# Altium schematic symbol library ic-memory.SchLib: 9 symbols
Pins are listed as number, name and electrical type; pins without a type are passive.

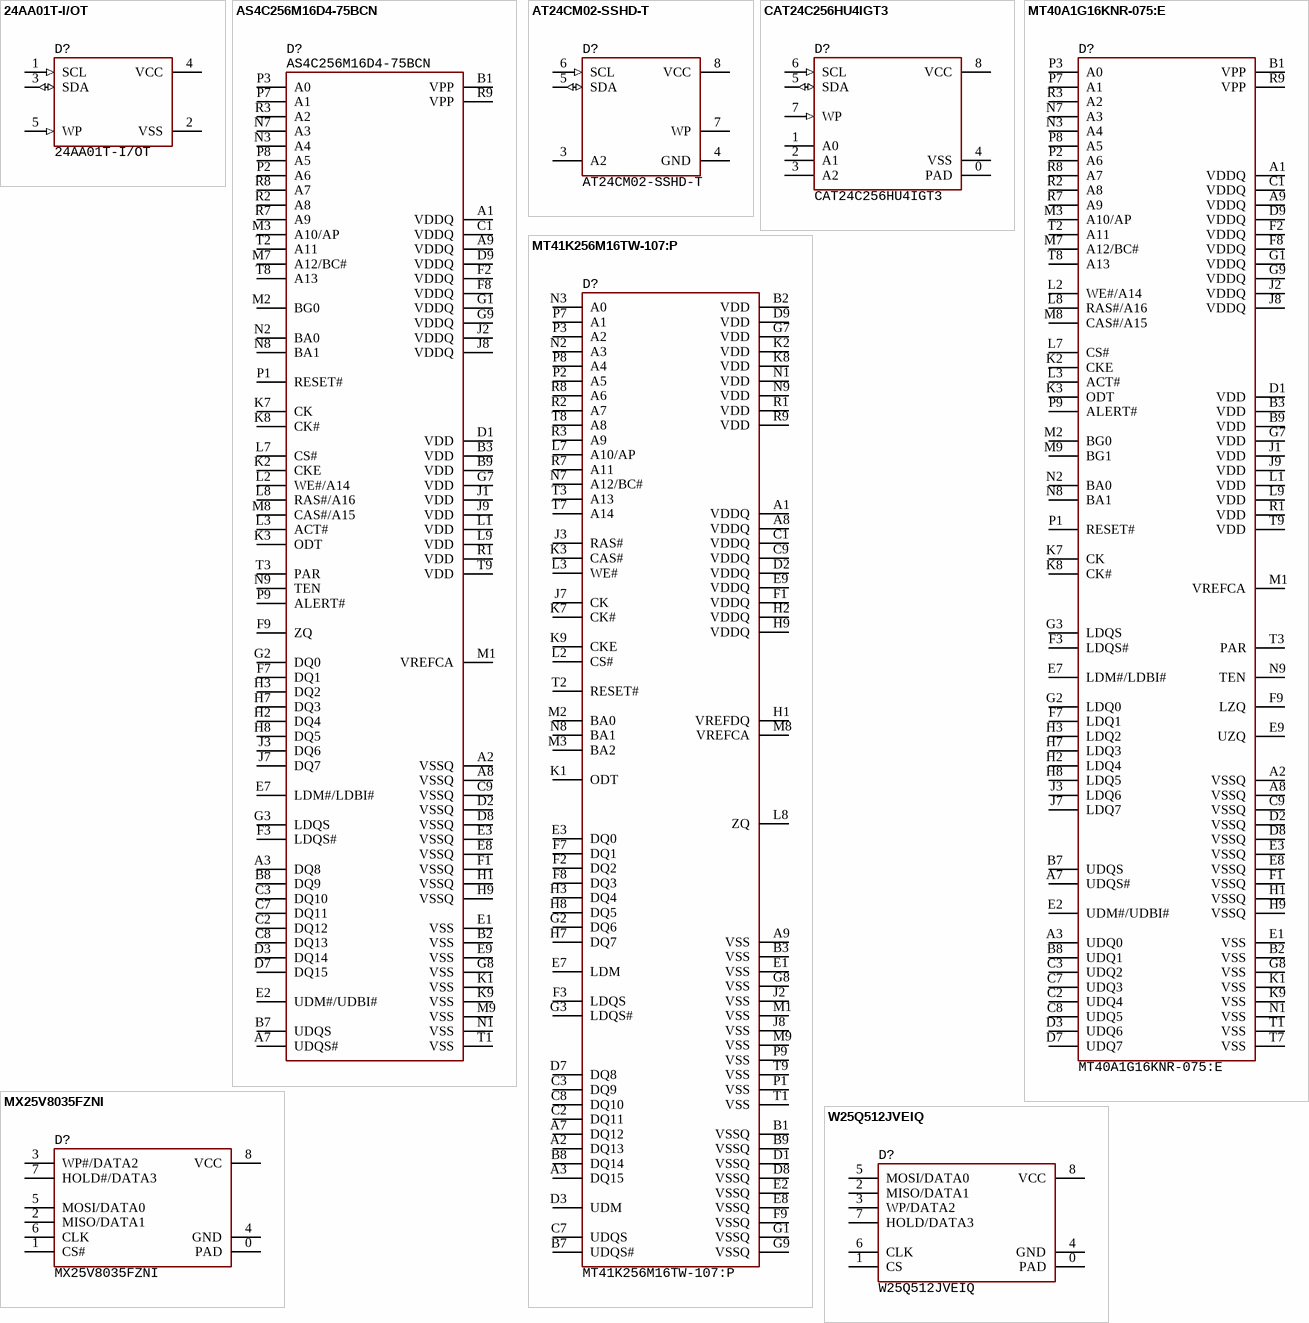
[diagram p0: symbols 24AA01T-I/OT to W25Q512JVEIQ]

## 24AA01T-I/OT
designator D?
EEPROM, 1KB (128x8), I2C, 100kHz, supply 1.7...5.5V, SOT-23-5, -40...+85°C; Manufacturer: Microchip; HelpURL: https://ru.mouser.com/ProductDetail/Microchip-Technology/24AA01T-I-OT?qs=JaP0%252BruNJH9QbK8hwgt6AQ%3D%3D; Package: SOT-23-5; Manufacturer Part Number: 24AA01T-I/OT; Component Type: Memory; PartNumber: 24AA01T-I/OT
footprint SOT23-5 (pitch 0.95 mm)
pins: 1 SCL (in), 2 VSS (power), 3 SDA (io), 4 VCC (power), 5 WP (in)

## AS4C256M16D4-75BCN
designator D?
DDR4 SDRAM, 4Gbit, 2666 MT/s, supply 1.14...1.26V, FBGA-96, 0...+95°C; Manufacture: Alliance Memory; HelpURL: https://eu.mouser.com/ProductDetail/Alliance-Memory/AS4C256M16D4-75BCN?qs=BJlw7L4Cy7%2FWGMn%252B%252BCj0pg%3D%3D; Package: FBGA-96; PartNumber: AS4C256M16D4-75BCN
footprint 96-FBGA (13.5x7.5, pitch 0.8) (pitch 0.8mm)
pins: A1 VDDQ, A2 VSSQ, A3 DQ8, A7 UDQS#, A8 VSSQ, A9 VDDQ, B1 VPP, B2 VSS, B3 VDD, B7 UDQS, B8 DQ9, B9 VDD, C1 VDDQ, C2 DQ12, C3 DQ10, C7 DQ11, C8 DQ13, C9 VSSQ, D1 VDD, D2 VSSQ, D3 DQ14, D7 DQ15, D8 VSSQ, D9 VDDQ, E1 VSS, E2 UDM#/UDBI#, E3 VSSQ, E7 LDM#/LDBI#, E8 VSSQ, E9 VSS, F1 VSSQ, F2 VDDQ, F3 LDQS#, F7 DQ1, F8 VDDQ, F9 ZQ, G1 VDDQ, G2 DQ0, G3 LDQS, G7 VDD, G8 VSS, G9 VDDQ, H1 VSSQ, H2 DQ4, H3 DQ2, H7 DQ3, H8 DQ5, H9 VSSQ, J1 VDD, J2 VDDQ, J3 DQ6, J7 DQ7, J8 VDDQ, J9 VDD, K1 VSS, K2 CKE, K3 ODT, K7 CK, K8 CK#, K9 VSS, L1 VDD, L2 WE#/A14, L3 ACT#, L7 CS#, L8 RAS#/A16, L9 VDD, M1 VREFCA, M2 BG0, M3 A10/AP, M7 A12/BC#, M8 CAS#/A15, M9 VSS, N1 VSS, N2 BA0, N3 A4, N7 A3, N8 BA1, N9 TEN, P1 RESET#, P2 A6, P3 A0, P7 A1, P8 A5, P9 ALERT#, R1 VDD, R2 A8, R3 A2, R7 A9, R8 A7, R9 VPP, T1 VSS, T2 A11, T3 PAR, T8 A13, T9 VDD

## AT24CM02-SSHD-T
designator D?
EEPROM, 2Mb (256K x 8), I2C, 1MHz, supply 1.8...5.5V, UDFN-8, -40...+85°C; Manufacturer: Microchip; Package: SOIC-8; HelpURL: https://www.digikey.com/en/products/detail/microchip-technology/AT24CM02-SSHD-T/5313450; Manufacturer Part Number: AT24CM02-SSHD-T; Component Type: Memory; PartNumber: AT24CM02-SSHD-T
footprint 8-SOIC (pitch 1.27 mm)
pins: 3 A2, 4 GND, 5 SDA (io), 6 SCL (in), 7 WP, 8 VCC

## CAT24C256HU4IGT3
designator D?
EEPROM, 256Kb (32K x 8), I2C, 1MHz, supply 1.8...5.5V, UDFN-8, -40...+85°C; Manufacturer: ON Semiconductor; Package: UDFN-8; HelpURL: https://ru.mouser.com/ProductDetail/onsemi/CAT24C256HU4IGT3?qs=BJFa2WV4K9maOpV79xpJmg%3D%3D; Manufacturer Part Number: CAT24C256HU4IGT3; Component Type: Memory; PartNumber: CAT24C256HU4IGT3
footprint 8-DFN (2x3, 0.5 mm)
pins: 0 PAD, 1 A0, 2 A1, 3 A2, 4 VSS, 5 SDA (io), 6 SCL (in), 7 WP (in), 8 VCC

## MT40A1G16KNR-075:E
designator D?
DDR4 SDRAM, 16G (1G x 16), 3200 MT/s, supply 1.14...1.26V, FBGA-96, 0...+95°C; Manufacturer: Micron; Manufacturer: Micron Technology; HelpURL: https://ru.mouser.com/ProductDetail/Micron/MT40A1G16KNR-075E?qs=rrS6PyfT74evT8krwpaCfQ%3D%3D; Package: 96-FBGA (13.5x7.5); Manufacturer Part Number: MT40A1G16KNR-075:E; Component Type: Memory; PartNumber: MT40A1G16KNR-075:E
footprint 96-FBGA (13.5x7.5, pitch 0.8) (pitch 0.8mm)
pins: A1 VDDQ, A2 VSSQ, A3 UDQ0, A7 UDQS#, A8 VSSQ, A9 VDDQ, B1 VPP, B2 VSS, B3 VDD, B7 UDQS, B8 UDQ1, B9 VDD, C1 VDDQ, C2 UDQ4, C3 UDQ2, C7 UDQ3, C8 UDQ5, C9 VSSQ, D1 VDD, D2 VSSQ, D3 UDQ6, D7 UDQ7, D8 VSSQ, D9 VDDQ, E1 VSS, E2 UDM#/UDBI#, E3 VSSQ, E7 LDM#/LDBI#, E8 VSSQ, E9 UZQ, F1 VSSQ, F2 VDDQ, F3 LDQS#, F7 LDQ1, F8 VDDQ, F9 LZQ, G1 VDDQ, G2 LDQ0, G3 LDQS, G7 VDD, G8 VSS, G9 VDDQ, H1 VSSQ, H2 LDQ4, H3 LDQ2, H7 LDQ3, H8 LDQ5, H9 VSSQ, J1 VDD, J2 VDDQ, J3 LDQ6, J7 LDQ7, J8 VDDQ, J9 VDD, K1 VSS, K2 CKE, K3 ODT, K7 CK, K8 CK#, K9 VSS, L1 VDD, L2 WE#/A14, L3 ACT#, L7 CS#, L8 RAS#/A16, L9 VDD, M1 VREFCA, M2 BG0, M3 A10/AP, M7 A12/BC#, M8 CAS#/A15, M9 BG1, N1 VSS, N2 BA0, N3 A4, N7 A3, N8 BA1, N9 TEN, P1 RESET#, P2 A6, P3 A0, P7 A1, P8 A5, P9 ALERT#, R1 VDD, R2 A8, R3 A2, R7 A9, R8 A7, R9 VPP, T1 VSS, T2 A11, T3 PAR, T7 VSS, T8 A13, T9 VDD

## MT41K256M16TW-107:P
designator D?  PartNumber: MT41K256M16TW-107:P
DDR3, 4 Gbit, 1866 MT/s, suplly 1.425...1.575V, 0...+95°C, 96-TFBGA; Manufacturer: Micron; HelpURL: https://www.digikey.com/en/products/detail/micron-technology-inc/MT41K256M16TW-107-P/5956623; Package: 96-TFBGA; ComponentType: IC memory
footprint 96-TFBGA (14x8, pitch 0.8) (pitch 0.8mm)
pins: A1 VDDQ, A2 DQ13, A3 DQ15, A7 DQ12, A8 VDDQ, A9 VSS, B1 VSSQ, B2 VDD, B3 VSS, B7 UDQS#, B8 DQ14, B9 VSSQ, C1 VDDQ, C2 DQ11, C3 DQ9, C7 UDQS, C8 DQ10, C9 VDDQ, D1 VSSQ, D2 VDDQ, D3 UDM, D7 DQ8, D8 VSSQ, D9 VDD, E1 VSS, E2 VSSQ, E3 DQ0, E7 LDM, E8 VSSQ, E9 VDDQ, F1 VDDQ, F2 DQ2, F3 LDQS, F7 DQ1, F8 DQ3, F9 VSSQ, G1 VSSQ, G2 DQ6, G3 LDQS#, G7 VDD, G8 VSS, G9 VSSQ, H1 VREFDQ, H2 VDDQ, H3 DQ4, H7 DQ7, H8 DQ5, H9 VDDQ, J2 VSS, J3 RAS#, J7 CK, J8 VSS, K1 ODT, K2 VDD, K3 CAS#, K7 CK#, K8 VDD, K9 CKE, L2 CS#, L3 WE#, L7 A10/AP, L8 ZQ, M1 VSS, M2 BA0, M3 BA2, M8 VREFCA, M9 VSS, N1 VDD, N2 A3, N3 A0, N7 A12/BC#, N8 BA1, N9 VDD, P1 VSS, P2 A5, P3 A2, P7 A1, P8 A4, P9 VSS, R1 VDD, R2 A7, R3 A9, R7 A11, R8 A6, R9 VDD, T1 VSS, T2 RESET#, T3 A13, T7 A14, T8 A8, T9 VSS

## MX25V8035FZNI
designator D?
NOR FLASH, 8Mb (1M x 8b), SPI, 104 MHz, supply 2.3...3.6V, WSON-8, -40...+85°C; Manufacturer: Cypress; Manufacturer: Macronix; HelpURL: https://www.digikey.com/product-detail/en/cypress-semiconductor-corp/S34ML01G100TFI003/1274-1070-1-ND/4309180; Package: 8-WSON (6x5); Manufacturer Part Number: MX25V8035FZNI; Component Type: Memory; PartNumber: MX25V8035FZNI
footprint 8-DFN (5x6, 1.27 mm) (5x6 mm, pitch 1.27 mm, power pad)
pins: 0 PAD, 1 CS#, 2 MISO/DATA1, 3 WP#/DATA2, 4 GND, 5 MOSI/DATA0, 6 CLK, 7 HOLD#/DATA3, 8 VCC

## W25Q512JVEIQ
designator D?
NOR FLASH, 512 Mbit (64M x 8b), QuadSPI, 133 MHz, supply 2.7...3.6V, WSON-8, -40...+85°C; Manufacturer: Winbond; HelpURL: https://eu.mouser.com/ProductDetail/Winbond/W25Q512JVEIQ?qs=l7cgNqFNU1jw6svr3at6tA%3D%3D; Package: 8-WSON (8x6); Manufacturer Part Number: W25Q512JVEIQ; Component Type: Memory; PartNumber: W25Q512JVEIQ
footprint 8-DFN (8x6, 1.27 mm) (8x6 mm, pitch 1.27 mm, power pad)
pins: 0 PAD, 1 CS, 2 MISO/DATA1, 3 WP/DATA2, 4 GND, 5 MOSI/DATA0, 6 CLK, 7 HOLD/DATA3, 8 VCC

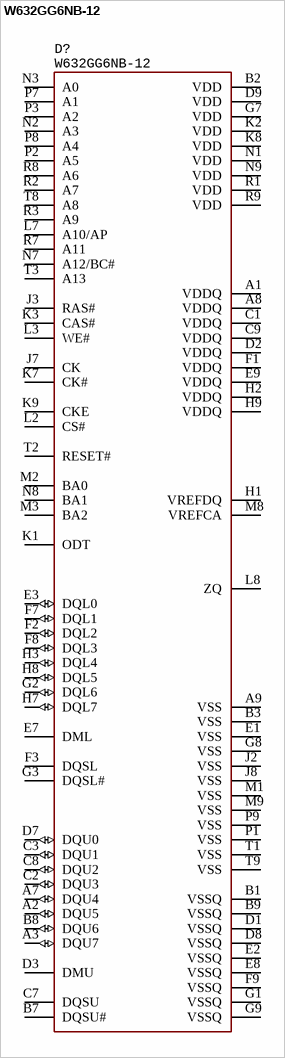
[diagram p1: symbol W632GG6NB-12]

## W632GG6NB-12
designator D?
DDR3, 2 Gbit, 1600 MT/s, suplly 1.425...1.575V, 0...+95°C, 96-TFBGA; Manufacture: Winbond; HelpURL: https://eu.mouser.com/ProductDetail/Winbond/W632GG6NB-12?qs=T3oQrply3y%2Fd%2FQY1VHYL5Q%3D%3D; Package: FBGA-96; PartNumber: W632GG6NB-12
footprint 96-FBGA (13x7.5, pitch 0.8) (pitch 0.8mm)
pins: A1 VDDQ, A2 DQU5 (io), A3 DQU7 (io), A7 DQU4 (io), A8 VDDQ, A9 VSS, B1 VSSQ, B2 VDD, B3 VSS, B7 DQSU#, B8 DQU6 (io), B9 VSSQ, C1 VDDQ, C2 DQU3 (io), C3 DQU1 (io), C7 DQSU, C8 DQU2 (io), C9 VDDQ, D1 VSSQ, D2 VDDQ, D3 DMU, D7 DQU0 (io), D8 VSSQ, D9 VDD, E1 VSS, E2 VSSQ, E3 DQL0 (io), E7 DML, E8 VSSQ, E9 VDDQ, F1 VDDQ, F2 DQL2 (io), F3 DQSL, F7 DQL1 (io), F8 DQL3 (io), F9 VSSQ, G1 VSSQ, G2 DQL6 (io), G3 DQSL#, G7 VDD, G8 VSS, G9 VSSQ, H1 VREFDQ, H2 VDDQ, H3 DQL4 (io), H7 DQL7 (io), H8 DQL5 (io), H9 VDDQ, J2 VSS, J3 RAS#, J7 CK, J8 VSS, K1 ODT, K2 VDD, K3 CAS#, K7 CK#, K8 VDD, K9 CKE, L2 CS#, L3 WE#, L7 A10/AP, L8 ZQ, M1 VSS, M2 BA0, M3 BA2, M8 VREFCA, M9 VSS, N1 VDD, N2 A3, N3 A0, N7 A12/BC#, N8 BA1, N9 VDD, P1 VSS, P2 A5, P3 A2, P7 A1, P8 A4, P9 VSS, R1 VDD, R2 A7, R3 A9, R7 A11, R8 A6, R9 VDD, T1 VSS, T2 RESET#, T3 A13, T8 A8, T9 VSS